# EAGLE library part 418121270805 (library Eagle_Wuerth_Elektronik_Switch)
WS-IC-2.54 mm small compact SMD Dip Switch with raised actuator,10 pins,5 poles
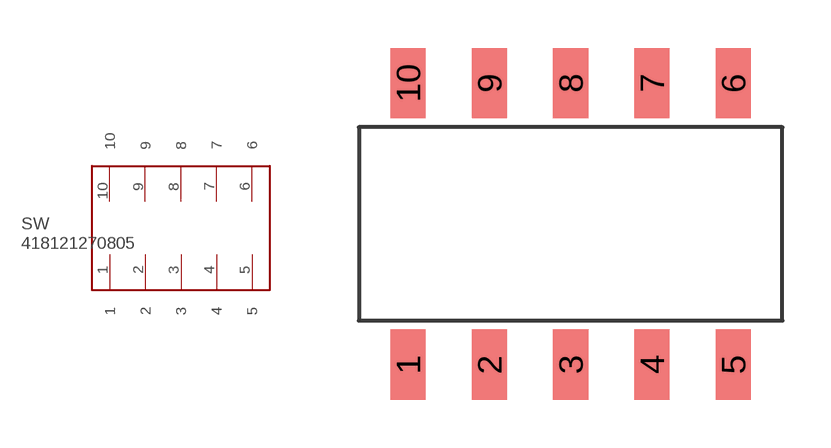
[diagram p41: symbol with the pads of 418121270805; footprint 418121270805]

Designator prefix SW

## 418121270805  [418121270805]
1  1
2  2
3  3
4  4
5  5
6  6
7  7
8  8
9  9
10  10

## Footprint 418121270805 (pad centres in mm)
WS-IC-2.54 mm small compact SMD Dip Switch with raised actuator,10 pins,5 poles
smd 1.1 x 2.2: 1 0,-4.4; 2 2.54,-4.4; 3 5.08,-4.4; 4 7.62,-4.4; 5 10.16,-4.4; 6 10.16,4.4; 7 7.62,4.4; 8 5.08,4.4; 9 2.54,4.4; 10 0,4.4